# Altium footprint library Alt_git.PcbLib: 81 footprints (part 6 of 6)
Each footprint in its own frame and in the unit in brackets; x right, y up, seen from the top. Pads: shape width x height; smd on the part's side, far side on the other; paste and mask are expansions set on the pad; w line width, h text height; cw(c..) or ccw(c..) is an arc to the next point about the centre after c.
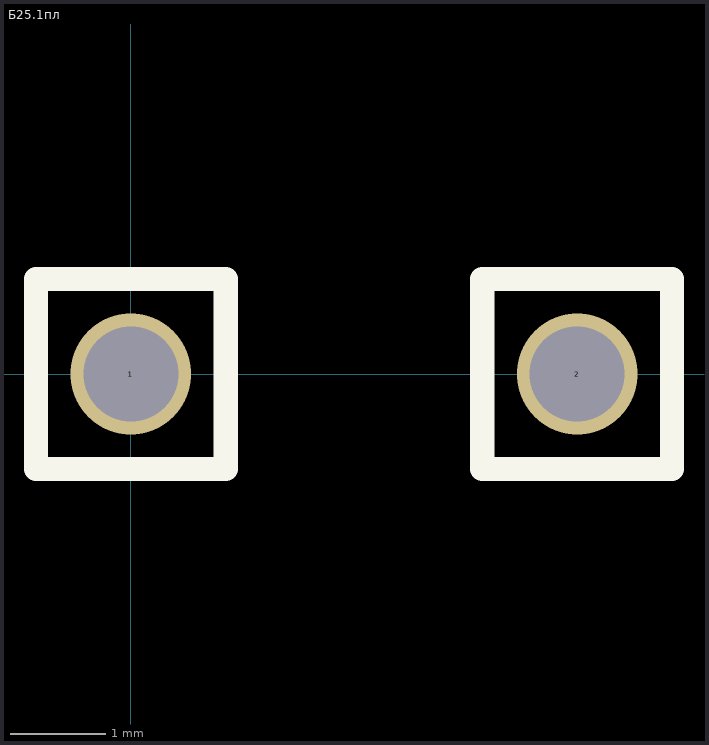
[diagram p5: the footprint, top view; thin cyan lines are the x and y axes]

## Б25.1пл [mm]
pads (2):
  rect 0.1x0.1 smd paste+0: 1(0,0) 2(4.7,0)
via 4.7,0 diameter 1.27 hole 1
via 0,0 diameter 1.27 hole 1
Top Overlay:
  lines w0.254: -1,-1 -1,1 1,1 1,-1 -1,-1 ; 3.7,-1 3.7,1 5.7,1 5.7,-1 3.7,-1
3D body "Корпус FB навесной.stp": height 2.7, standoff -0.35, extent -0.399,-0.7 4.999,0.697